# Altium schematic symbol library BC847BPN.Schlib: 1 symbol
Pins are listed as number, name and electrical type; pins without a type are passive.

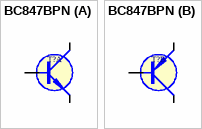
[diagram p0: symbol BC847BPN]

## BC847BPN
designator T?
SOT363 Dual p/n   45V 0.1A 100MHz 1.5pF/2.2 (10V)
part A pins: 1 E (oe), 2 B, 6 C (oc)
part B pins: 3 C (oc), 4 E (oe), 5 B
1 alternate drawing of the same symbol